# Altium schematic symbol library con_soldering.SchLib: 1 symbol
Pins are listed as number, name and electrical type; pins without a type are passive.

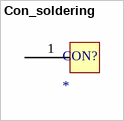
[diagram p0: symbol Con_soldering]

## Con_soldering
designator CON?
footprint con_soldering
pins: 1   